# Altium footprint library Amplifier.PcbLib: 1 footprints
Each footprint in its own frame and in the unit in brackets; x right, y up, seen from the top. Pads: shape width x height; smd on the part's side, far side on the other; paste and mask are expansions set on the pad; w line width, h text height; cw(c..) or ccw(c..) is an arc to the next point about the centre after c.
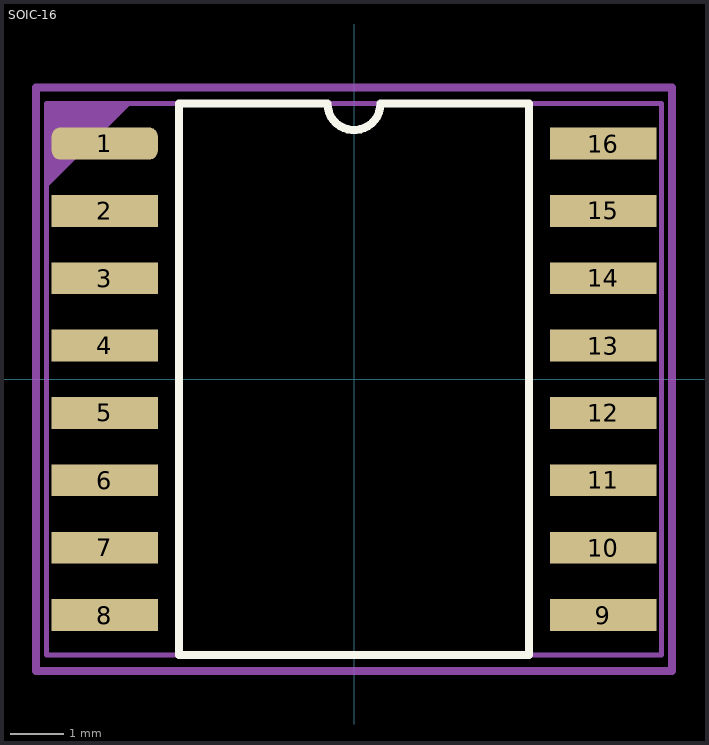
[diagram p0: the footprint, top view; thin cyan lines are the x and y axes]

## SOIC-16 [mm]
pads (16):
  rrect50% 2x0.6 smd: 1(-4.7,4.445)
  rect 2x0.6 smd: 2(-4.7,3.175) 3(-4.7,1.905) 4(-4.7,0.635) 5(-4.7,-0.635) 6(-4.7,-1.905) 7(-4.7,-3.175) 8(-4.7,-4.445) 9(4.7,-4.445) 10(4.7,-3.175) 11(4.7,-1.905) 12(4.7,-0.635) 13(4.7,0.635) 14(4.7,1.905) 15(4.7,3.175) 16(4.7,4.445)
Top Overlay:
  lines w0.153: -3.3,-5.2 3.3,-5.2 3.3,5.2 0.5,5.2 cw(c0,5.2) -0.5,5.2 -3.3,5.2 -3.3,-5.2
Top Assembly:
  region: -5.8,5.2 -5.8,3.6 -4.2,5.2
  lines w0.1: -5.8,-5.2 5.8,-5.2 5.8,5.2 -5.8,5.2 -5.8,-5.2
  text "'.Designator'" at -4.532,-0.333 h0.8
Top Courtyard:
  lines w0.153: -6,-5.5 -6,5.5 6,5.5 6,-5.5 -6,-5.5
3D body "step_temp.STEP": height 2.64, standoff -0.01, extent -5.15,-5.15 5.15,5.15